# Altium footprint library CAP_450V_470uF.PcbLib: 1 footprints
Each footprint in its own frame and in the unit in brackets; x right, y up, seen from the top. Pads: shape width x height; smd on the part's side, far side on the other; paste and mask are expansions set on the pad; w line width, h text height; cw(c..) or ccw(c..) is an arc to the next point about the centre after c.
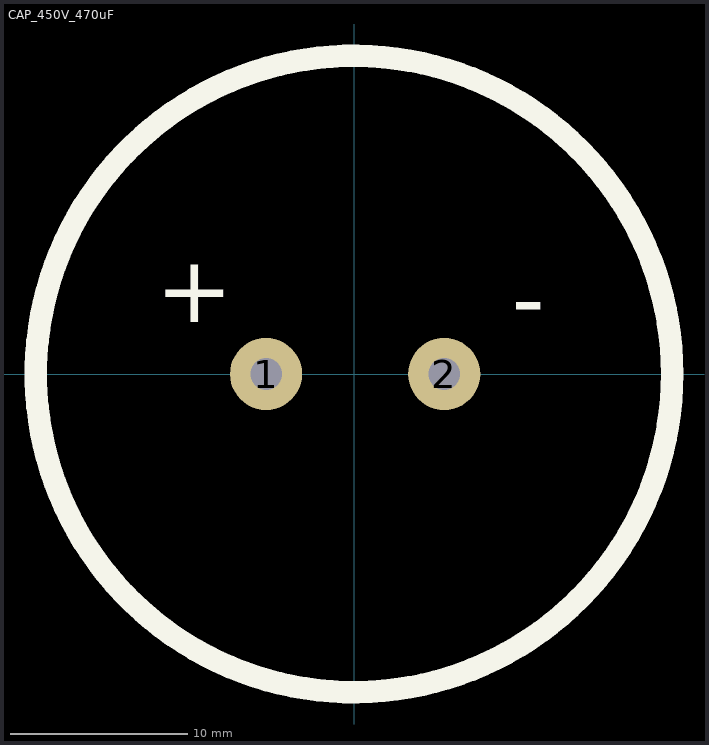
[diagram p0: the footprint, top view; thin cyan lines are the x and y axes]

## CAP_450V_470uF [mil]
pads (2):
  round 160 hole 70: 1(-195,0) 2(200,0)
Top Overlay:
  circle w50: c0,0 r705.64
  text "+" at -440,115.01 h150
  text "-" at 350,95.02 h150
3D body "HITANO 470uF 450V EHP 105C (N).STEP": height 2044.3, standoff -243.1, extent -688.98,-688.98 692.91,692.91